# EAGLE library part LTC3701 (library PowerProducts)
2-Phase, Low Input Voltage, Dual Step-Down DC/DC Controller
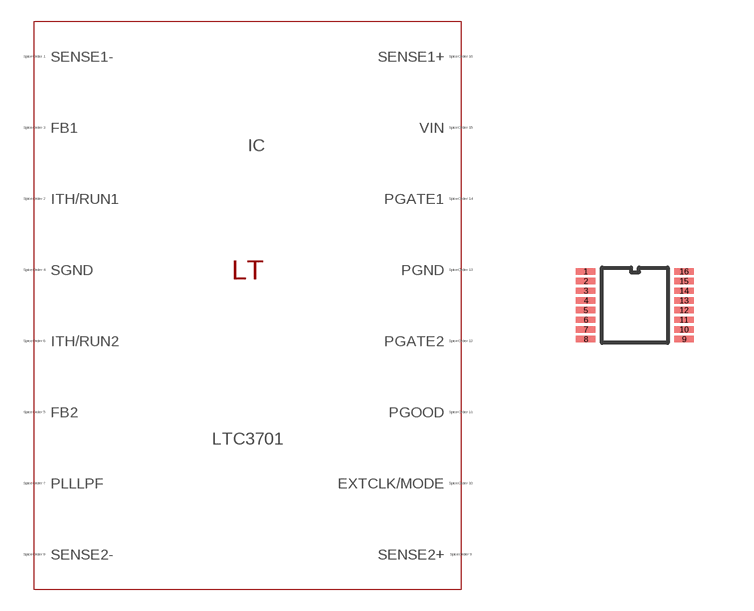
[diagram p280: symbol with the pads of SSOP16(GN); footprint SSOP16(GN)]

Designator prefix IC

## LTC3701 (SPICEMODEL: LTC3701.sub; SPICEPREFIX: X; VALUE2: LTC3701)  [SSOP16(GN)]
1  SENSE1-  pas
2  ITH/RUN1  pas
3  FB1  pas
4  SGND  pas
5  FB2  pas
6  ITH/RUN2  pas
7  PLLLPF  pas
8  SENSE2-  pas
9  SENSE2+  pas
10  EXTCLK/MODE  pas
11  PGOOD  pas
12  PGATE2  pas
13  PGND  pas
14  PGATE1  pas
15  VIN  pas
16  SENSE1+  pas

## Footprint SSOP16(GN) (pad centres in mm)
Package generated from: SSOP16(GN).asc (!PADS-POWERPCB-V5.0-BASIC! DESIGN DATABASE ASCII FILE 1.0) with :import-pads-powerpcb-v5.ulp Version 1.0.1 at 04.10.2012 14:11:37
smd 0.484 x 0.16: 1 -1.229,0.847; 2 -1.229,0.605; 3 -1.229,0.363; 4 -1.229,0.121; 5 -1.229,-0.121; 6 -1.229,-0.363; 7 -1.229,-0.605; 8 -1.229,-0.847; 9 1.229,-0.847; 10 1.229,-0.605; 11 1.229,-0.363; 12 1.229,-0.121; 13 1.229,0.121; 14 1.229,0.363; 15 1.229,0.605; 16 1.229,0.847